# Altium schematic symbol library B250A-13-F.SchLib: 1 symbol
Pins are listed as number, name and electrical type; pins without a type are passive.

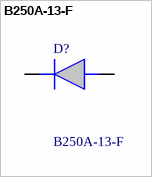
[diagram p0: symbol B250A-13-F]

## B250A-13-F
designator D?
Diodes Inc B250A-13-F, SMT Schottky Diode, 50V 2A, 2-Pin DO-214AC; Manufacturer_Name: Diodes Inc.; Geometry.Height: 2.3mm; Manufacturer_Part_Number: B250A-13-F; Mouser Part Number: 621-B250A-F; Mouser Price/Stock: https://www.mouser.co.uk/ProductDetail/Diodes-Incorporated/B250A-13-F?qs=vCs%252BXXHcZCYwSuq4TGO9ug%3D%3D; Arrow Part Number: B250A-13-F; Arrow Price/Stock: https://www.arrow.com/en/products/b250a-13-f/diodes-incorporated?region=nac; Datasheet Link: https://www.diodes.com/assets/Datasheets/ds13004.pdf
footprint DIOM5226X230N
pins: 1 K, 2 A